# EAGLE library part ATMEGA48PA-AU (library avr)
ATmega48A/48PA/88A/88PA/168A/168PA/328/328P The ATmega48A/48PA/88A/88PA/168A/168PA/328/328P is a low-power CMOS 8-bit microcontroller based on the AVR enhanced RISC architecture. By executing powerful instructions in a single clock cycle, the ATmega48A/48PA/88A/88PA/168A/168PA/328/328P achieves throughputs approaching 1 MIPS per MHz allowing the system designer to optimize power consumption versus processing speed. 32A, 32-lead, 7 x 7 mm Body Size, 1.0 mm Body Thickness, 0.8 mm Lead Pitch, Thin Profile Plastic Quad Flat Package (TQFP)
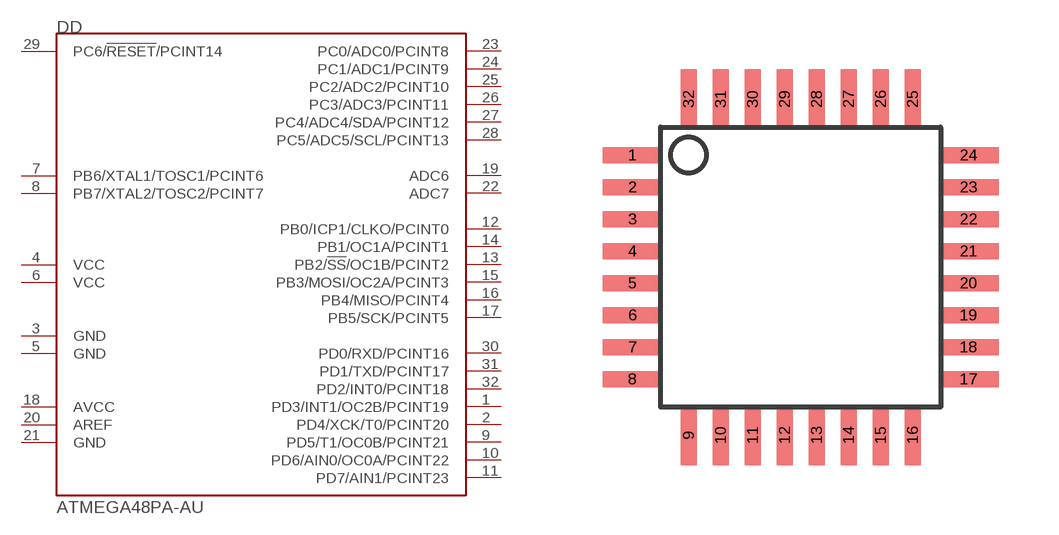
[diagram p1: symbol with the pads of TQFP32; footprint TQFP32]

Designator prefix DD

## ATMEGA48PA-AU  [TQFP32]
1  PD3/INT1/OC2B/PCINT19
2  PD4/XCK/T0/PCINT20
3  GND  pwr
4  VCC  pwr
5  GND  pwr
6  VCC  pwr
7  PB6/XTAL1/TOSC1/PCINT6
8  PB7/XTAL2/TOSC2/PCINT7
9  PD5/T1/OC0B/PCINT21
10  PD6/AIN0/OC0A/PCINT22
11  PD7/AIN1/PCINT23
12  PB0/ICP1/CLKO/PCINT0
13  PB2/!SS!/OC1B/PCINT2
14  PB1/OC1A/PCINT1
15  PB3/MOSI/OC2A/PCINT3
16  PB4/MISO/PCINT4
17  PB5/SCK/PCINT5
18  AVCC  pwr
19  ADC6  in
20  AREF  pwr
21  GND  pwr
22  ADC7  in
23  PC0/ADC0/PCINT8
24  PC1/ADC1/PCINT9
25  PC2/ADC2/PCINT10
26  PC3/ADC3/PCINT11
27  PC4/ADC4/SDA/PCINT12
28  PC5/ADC5/SCL/PCINT13
29  PC6/!RESET!/PCINT14
30  PD0/RXD/PCINT16
31  PD1/TXD/PCINT17
32  PD2/INT0/PCINT18

## Footprint TQFP32 (pad centres in mm)
TQFP32 (32A) 32-lead, Thin (1.0 mm) Plastic Quad Flat Package (TQFP)
smd 1.5 x 0.4: 1 -4.2,2.8; 2 -4.2,2; 3 -4.2,1.2; 4 -4.2,0.4; 5 -4.2,-0.4; 6 -4.2,-1.2; 7 -4.2,-2; 8 -4.2,-2.8; 17 4.2,-2.8; 18 4.2,-2; 19 4.2,-1.2; 20 4.2,-0.4; 21 4.2,0.4; 22 4.2,1.2; 23 4.2,2; 24 4.2,2.8
smd 0.4 x 1.5: 9 -2.8,-4.2; 10 -2,-4.2; 11 -1.2,-4.2; 12 -0.4,-4.2; 13 0.4,-4.2; 14 1.2,-4.2; 15 2,-4.2; 16 2.8,-4.2; 25 2.8,4.2; 26 2,4.2; 27 1.2,4.2; 28 0.4,4.2; 29 -0.4,4.2; 30 -1.2,4.2; 31 -2,4.2; 32 -2.8,4.2